# Altium footprint library PTS18126V300.PcbLib: 1 footprints
Each footprint in its own frame and in the unit in brackets; x right, y up, seen from the top. Pads: shape width x height; smd on the part's side, far side on the other; paste and mask are expansions set on the pad; w line width, h text height; cw(c..) or ccw(c..) is an arc to the next point about the centre after c.
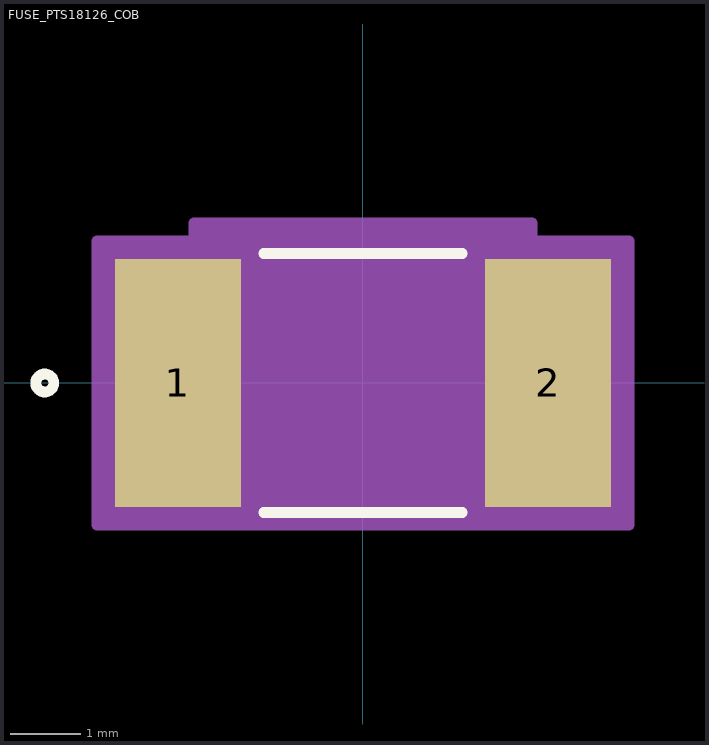
[diagram p0: the footprint, top view; thin cyan lines are the x and y axes]

## FUSE_PTS18126_COB [mil]
pads (2):
  rect 70x138 smd paste+0 mask+0: 1(-102.95,0) 2(102.95,0)
Top Overlay:
  circle w6: c-176.95,0 r5
  lines w6: -55.2,-72 55.2,-72 ; -55.2,72 55.2,72
Mechanical 13:
  circle w0: c-67.95,0 r3
  lines w0: -12,67 ccw(c0,67) 12,67
  lines w1: -84,-67 84,-67 84,67 -84,67 -84,-67
Mechanical 15:
  region: -94,-79 -147.95,-79 -147.95,79 -94,79 -94,89 94,89 94,79 147.95,79 147.95,-79 94,-79
  lines w6: -94,-79 -147.95,-79 -147.95,79 -94,79 -94,89 94,89 94,79 147.95,79 147.95,-79 94,-79 ; -94,-79 -94,-79 ; -94,-79 94,-79 ; 94,-79 94,-79
3D body "FUSE_PTS18126_COB.step": height 47.09, standoff 0, extent -84.02,-69.02 84.02,69.02